# Altium schematic symbol library HDMI_CONN.SchLib: 1 symbol
Pins are listed as number, name and electrical type; pins without a type are passive.

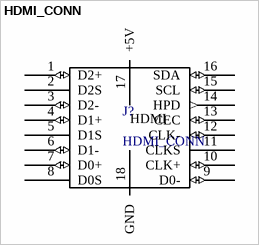
[diagram p0: symbol HDMI_CONN]

## HDMI_CONN
designator J?
HDMI connector symbol
pins: 1 D2+ (io), 2 D2S, 3 D2- (io), 4 D1+ (io), 5 D1S, 6 D1- (io), 7 D0+ (io), 8 D0S, 9 D0- (io), 10 CLK+ (io), 11 CLKS, 12 CLK- (io), 13 CEC (io), 14 HPD (out), 15 SCL (io), 16 SDA (io), 17 +5V (power), 18 GND (power)
text: HDMI